# EAGLE library part SIM808 (library Deegou-Interface-ICs)
GSM/GPRS BLUETOOTH GNSS SMT 68P
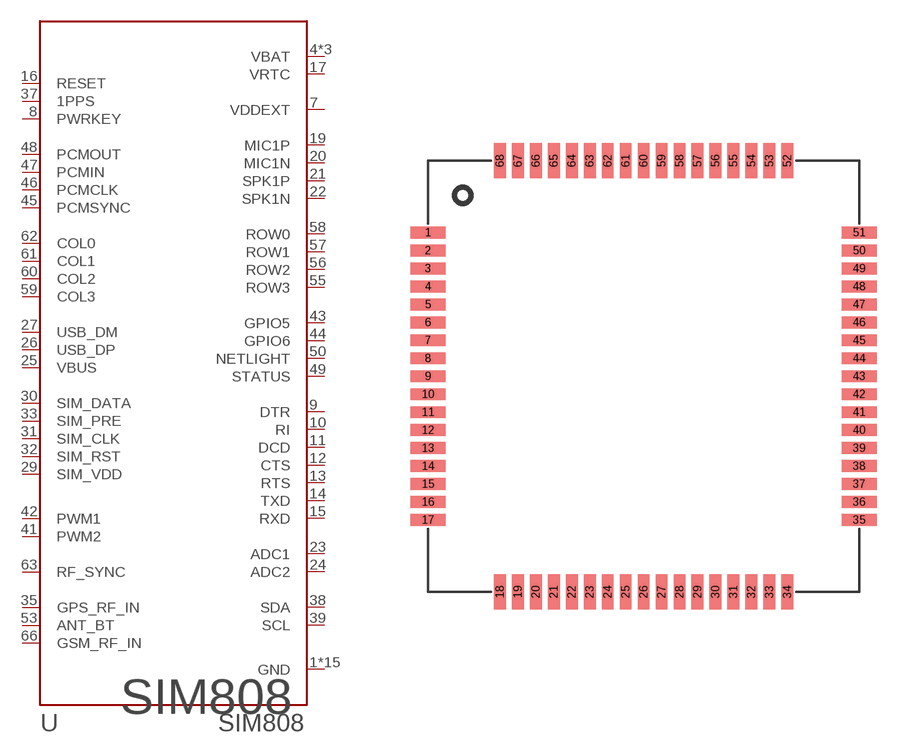
[diagram p1: symbol with the pads of 68P-24X24X2.6; footprint 68P-24X24X2.6]

Designator prefix U

## SIM808 (MFR: SIMCom; MPN: SIM808; VALUE: SIM808)  [68P-24X24X2.6]
1  GND
2  GND
3  GND
4  VBAT
5  VBAT
6  VBAT
7  VDDEXT
8  PWRKEY
9  DTR
10  RI
11  DCD
12  CTS
13  RTS
14  TXD
15  RXD
16  RESET
17  VRTC
18  GND
19  MIC1P
20  MIC1N
21  SPK1P
22  SPK1N
23  ADC1
24  ADC2
25  VBUS
26  USB_DP
27  USB_DM
28  GND
29  SIM_VDD
30  SIM_DATA
31  SIM_CLK
32  SIM_RST
33  SIM_PRE
34  GND
35  GPS_RF_IN
36  GND
37  1PPS
38  SDA
39  SCL
40  GND
41  PWM2
42  PWM1
43  GPIO5
44  GPIO6
45  PCMSYNC
46  PCMCLK
47  PCMIN
48  PCMOUT
49  STATUS
50  NETLIGHT
51  GND
52  GND
53  ANT_BT
54  GND
55  ROW3
56  ROW2
57  ROW1
58  ROW0
59  COL3
60  COL2
61  COL1
62  COL0
63  RF_SYNC
64  GND
65  GND
66  GSM_RF_IN
67  GND
68  GND

## Footprint 68P-24X24X2.6 (pad centres in mm)
smd 1.93 x 0.66: 1 -12,8; 2 -12,7; 3 -12,6; 4 -12,5; 5 -12,4; 6 -12,3; 7 -12,2; 8 -12,1; 9 -12,0; 10 -12,-1; 11 -12,-2; 12 -12,-3; 13 -12,-4; 14 -12,-5; 15 -12,-6; 16 -12,-7; 17 -12,-8; 35 12,-8; 36 12,-7; 37 12,-6; 38 12,-5; 39 12,-4; 40 12,-3; 41 12,-2; 42 12,-1; 43 12,0; 44 12,1; 45 12,2; 46 12,3; 47 12,4; 48 12,5; 49 12,6; 50 12,7; 51 12,8
smd 0.66 x 1.93: 18 -8,-12; 19 -7,-12; 20 -6,-12; 21 -5,-12; 22 -4,-12; 23 -3,-12; 24 -2,-12; 25 -1,-12; 26 0,-12; 27 1,-12; 28 2,-12; 29 3,-12; 30 4,-12; 31 5,-12; 32 6,-12; 33 7,-12; 34 8,-12; 52 8,12; 53 7,12; 54 6,12; 55 5,12; 56 4,12; 57 3,12; 58 2,12; 59 1,12; 60 0,12; 61 -1,12; 62 -2,12; 63 -3,12; 64 -4,12; 65 -5,12; 66 -6,12; 67 -7,12; 68 -8,12